# EAGLE library part SSW-106-02-S-S (library con-samtec)
THROUGH-HOLE .025" SQ POST SOCKET Source: Samtec SSW.pdf
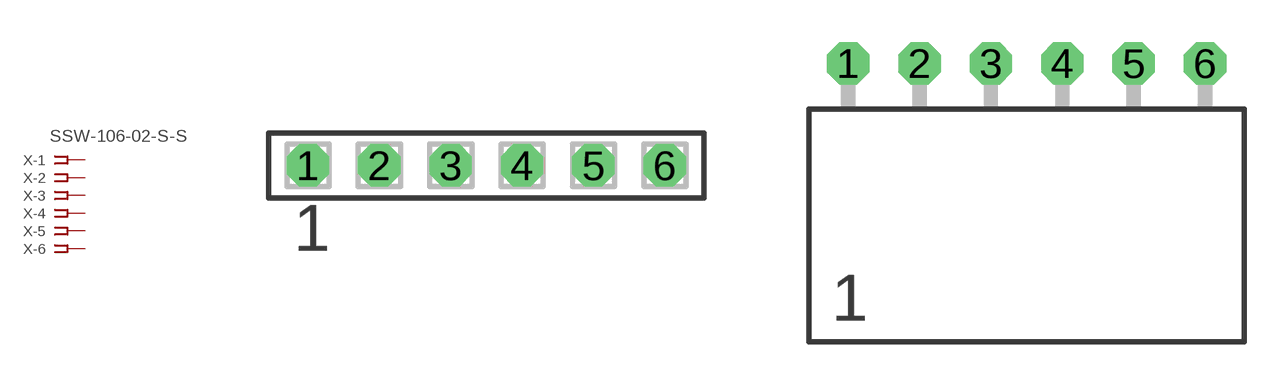
[diagram p98: symbol with the pads of SSW-106-02-S-S; footprints SSW-106-02-S-S, SSW-106-02-S-S-RA]

Designator prefix X; gates -1=FPINV -2=FPIN -3=FPIN -4=FPIN -5=FPIN -6=FPIN

## SSW-106-02-S-S  [SSW-106-02-S-S]
1  -1:1  pas
2  -2:1  pas
3  -3:1  pas
4  -4:1  pas
5  -5:1  pas
6  -6:1  pas

## SSW-106-02-S-S-RA  [SSW-106-02-S-S-RA]
Pads as for SSW-106-02-S-S

## Footprint SSW-106-02-S-S (pad centres in mm)
THROUGH-HOLE .025" SQ POST SOCKET Source: Samtec SSW.pdf
drill 1 pad 1.5 octagon: 1 -6.35,0; 2 -3.81,0; 3 -1.27,0; 4 1.27,0; 5 3.81,0; 6 6.35,0

## Footprint SSW-106-02-S-S-RA (pad centres in mm)
THROUGH-HOLE .025" SQ POST SOCKET Source: Samtec SSW.pdf
drill 1 pad 1.5 octagon: 1 -6.35,1.524; 2 -3.81,1.524; 3 -1.27,1.524; 4 1.27,1.524; 5 3.81,1.524; 6 6.35,1.524